# Altium schematic symbol library BNO080_Breakout.SchLib: 1 symbol
Pins are listed as number, name and electrical type; pins without a type are passive.

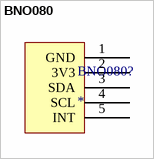
[diagram p0: symbol BNO080]

## BNO080
designator BNO080?
BNO080 Breakout Board
footprint BNO080 (Footprint not found)
pins: 1 GND, 2 3V3, 3 SDA, 4 SCL, 5 INT